# EAGLE library part BM08B-SRSS-TB(LF)(SN) (library X16-ESC-Adapter)
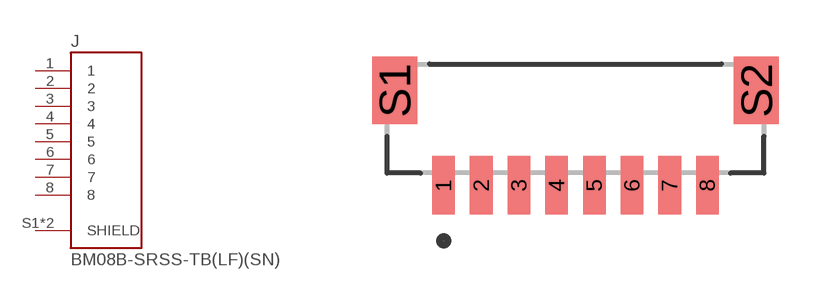
[diagram p4: symbol with the pads of JST_BM08B-SRSS-TB(LF)(SN); footprint JST_BM08B-SRSS-TB(LF)(SN)]

Designator prefix J

## BM08B-SRSS-TB(LF)(SN) (MANUFACTURER: JST Sales America Inc.; MAXIMUM_PACKAGE_HEIGHT: 6.3 mm; PARTREV: N/A; SNAPEDA_PN: BM08B-SRSS-TB(LF)(SN); STANDARD: Manufacturer Recommendations)  [JST_BM08B-SRSS-TB(LF)(SN)]
1  1  pas
2  2  pas
3  3  pas
4  4  pas
5  5  pas
6  6  pas
7  7  pas
8  8  pas
S1  SHIELD  pas
S2  SHIELD  pas

## Footprint JST_BM08B-SRSS-TB(LF)(SN) (pad centres in mm)
smd 0.6 x 1.55: 1 -3.5,-2.525; 2 -2.5,-2.525; 3 -1.5,-2.525; 4 -0.5,-2.525; 5 0.5,-2.525; 6 1.5,-2.525; 7 2.5,-2.525; 8 3.5,-2.525
smd 1.2 x 1.8: S1 -4.8,0; S2 4.8,0